# EAGLE library part SENSOR-MQ-5 (library moudle)
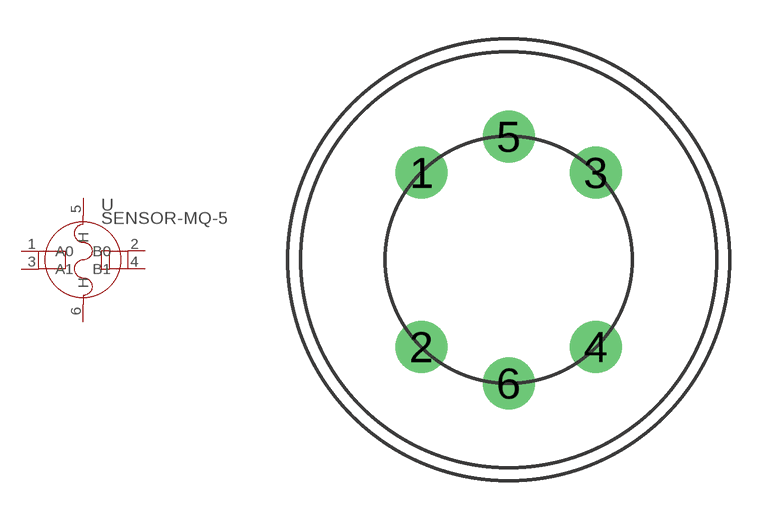
[diagram p16: symbol with the pads of 6P-ROUND-D19; footprint 6P-ROUND-D19]

Designator prefix U

## SENSOR-MQ-5  [6P-ROUND-D19]
1  A0
2  B0
3  A1
4  B1
5  H
6  H

## Footprint 6P-ROUND-D19 (pad centres in mm)
drill 1.3 pad 2: 1 -3.355,3.355; 2 -3.355,-3.355; 3 3.355,3.355; 4 3.355,-3.355; 5 0,4.75; 6 0,-4.75